# Altium schematic symbol library AIMC-0603-2N7S-T.SchLib: 1 symbol
Pins are listed as number, name and electrical type; pins without a type are passive.

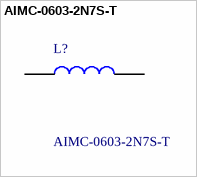
[diagram p0: symbol AIMC-0603-2N7S-T]

## AIMC-0603-2N7S-T
designator L?
Inductor Chip Multi-Layer 2.7nH 0.3nH 100MHz 10Q-Factor Ceramic 500mA 100mOhm DCR 0603 T/R; Manufacturer_Name: ABRACON; Geometry.Height: 0.95mm; Manufacturer_Part_Number: AIMC-0603-2N7S-T; Mouser Part Number: 815-AIMC-0603-2N7ST; Mouser Price/Stock: https://www.mouser.co.uk/ProductDetail/ABRACON/AIMC-0603-2N7S-T?qs=1vO2EIVe%252BY7Dyz%2F3njc3PA%3D%3D; Arrow Part Number: AIMC-0603-2N7S-T; Arrow Price/Stock: https://www.arrow.com/en/products/aimc-0603-2n7s-t/abracon?region=nac; Datasheet Link: https://abracon.com/Magnetics/new/AIMC-0603.pdf
footprint INDC1608X95N
pins: 1, 2